# Altium schematic symbol library SR9900AI.SCHLIB: 1 symbol
Pins are listed as number, name and electrical type; pins without a type are passive.

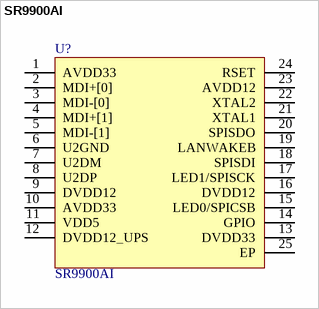
[diagram p0: symbol SR9900AI]

## SR9900AI
designator U?
pins: 1 AVDD33, 2 MDI+[0], 3 MDI-[0], 4 MDI+[1], 5 MDI-[1], 6 U2GND, 7 U2DM, 8 U2DP, 9 DVDD12, 10 AVDD33, 11 VDD5, 12 DVDD12_UPS, 13 DVDD33, 14 GPIO, 15 LED0/SPICSB, 16 DVDD12, 17 LED1/SPISCK, 18 SPISDI, 19 LANWAKEB, 20 SPISDO, 21 XTAL1, 22 XTAL2, 23 AVDD12, 24 RSET, 25 EP